# Altium schematic symbol library bolt.SchLib: 1 symbol
Pins are listed as number, name and electrical type; pins without a type are passive.

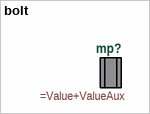
[diagram p0: symbol bolt]

## bolt
designator mp?  (mechanical)
=Description